# EAGLE library part BLE-MODULE (library mylib)
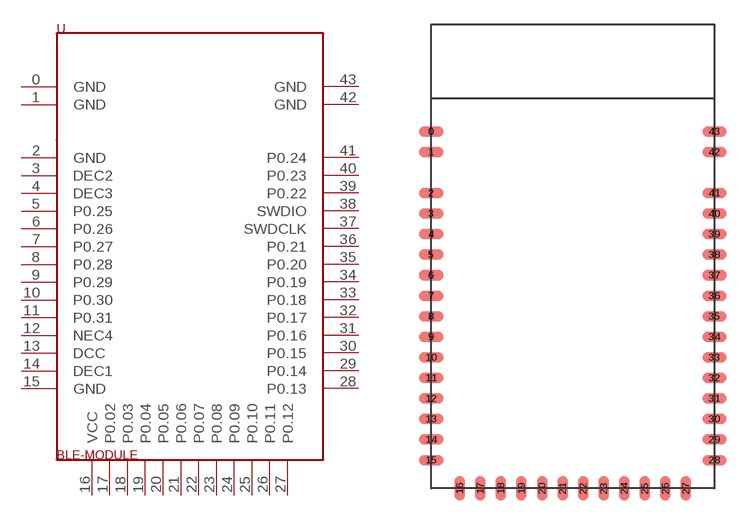
[diagram p16: symbol with the pads of BLE-MODULE; footprint BLE-MODULE]

Designator prefix -

## BLE-MODULE  [BLE-MODULE]
0  GND
1  GND
2  GND
3  DEC2
4  DEC3
5  P0.25
6  P0.26
7  P0.27
8  P0.28
9  P0.29
10  P0.30
11  P0.31
12  NEC4
13  DCC
14  DEC1
15  GND
16  VCC
17  P0.02
18  P0.03
19  P0.04
20  P0.05
21  P0.06
22  P0.07
23  P0.08
24  P0.09
25  P0.10
26  P0.11
27  P0.12
28  P0.13
29  P0.14
30  P0.15
31  P0.16
32  P0.17
33  P0.18
34  P0.19
35  P0.20
36  P0.21
37  SWDCLK
38  SWDIO
39  P0.22
40  P0.23
41  P0.24
42  GND
43  GND

## Footprint BLE-MODULE (pad centres in mm)
smd 1.5 x 0.65: 0 0,22.07; 1 0,20.8; 2 0,18.26; 3 0,16.99; 4 0,15.72; 5 0,14.45; 6 0,13.18; 7 0,11.91; 8 0,10.64; 9 0,9.37; 10 0,8.1; 11 0,6.83; 12 0,5.56; 13 0,4.29; 14 0,3.02; 15 0,1.75; 28 17.5,1.75; 29 17.5,3.02; 30 17.5,4.29; 31 17.5,5.56; 32 17.5,6.83; 33 17.5,8.1; 34 17.5,9.37; 35 17.5,10.64; 36 17.5,11.91; 37 17.5,13.18; 38 17.5,14.45; 39 17.5,15.72; 40 17.5,16.99; 41 17.5,18.26; 42 17.5,20.8; 43 17.5,22.07
smd 0.65 x 1.5: 16 1.77,0; 17 3.04,0; 18 4.31,0; 19 5.58,0; 20 6.85,0; 21 8.12,0; 22 9.39,0; 23 10.66,0; 24 11.93,0; 25 13.2,0; 26 14.47,0; 27 15.74,0